# Altium footprint library Sullins.PcbLib: 28 footprints (part 2 of 2)
Each footprint in its own frame and in the unit in brackets; x right, y up, seen from the top. Pads: shape width x height; smd on the part's side, far side on the other; paste and mask are expansions set on the pad; w line width, h text height; cw(c..) or ccw(c..) is an arc to the next point about the centre after c.
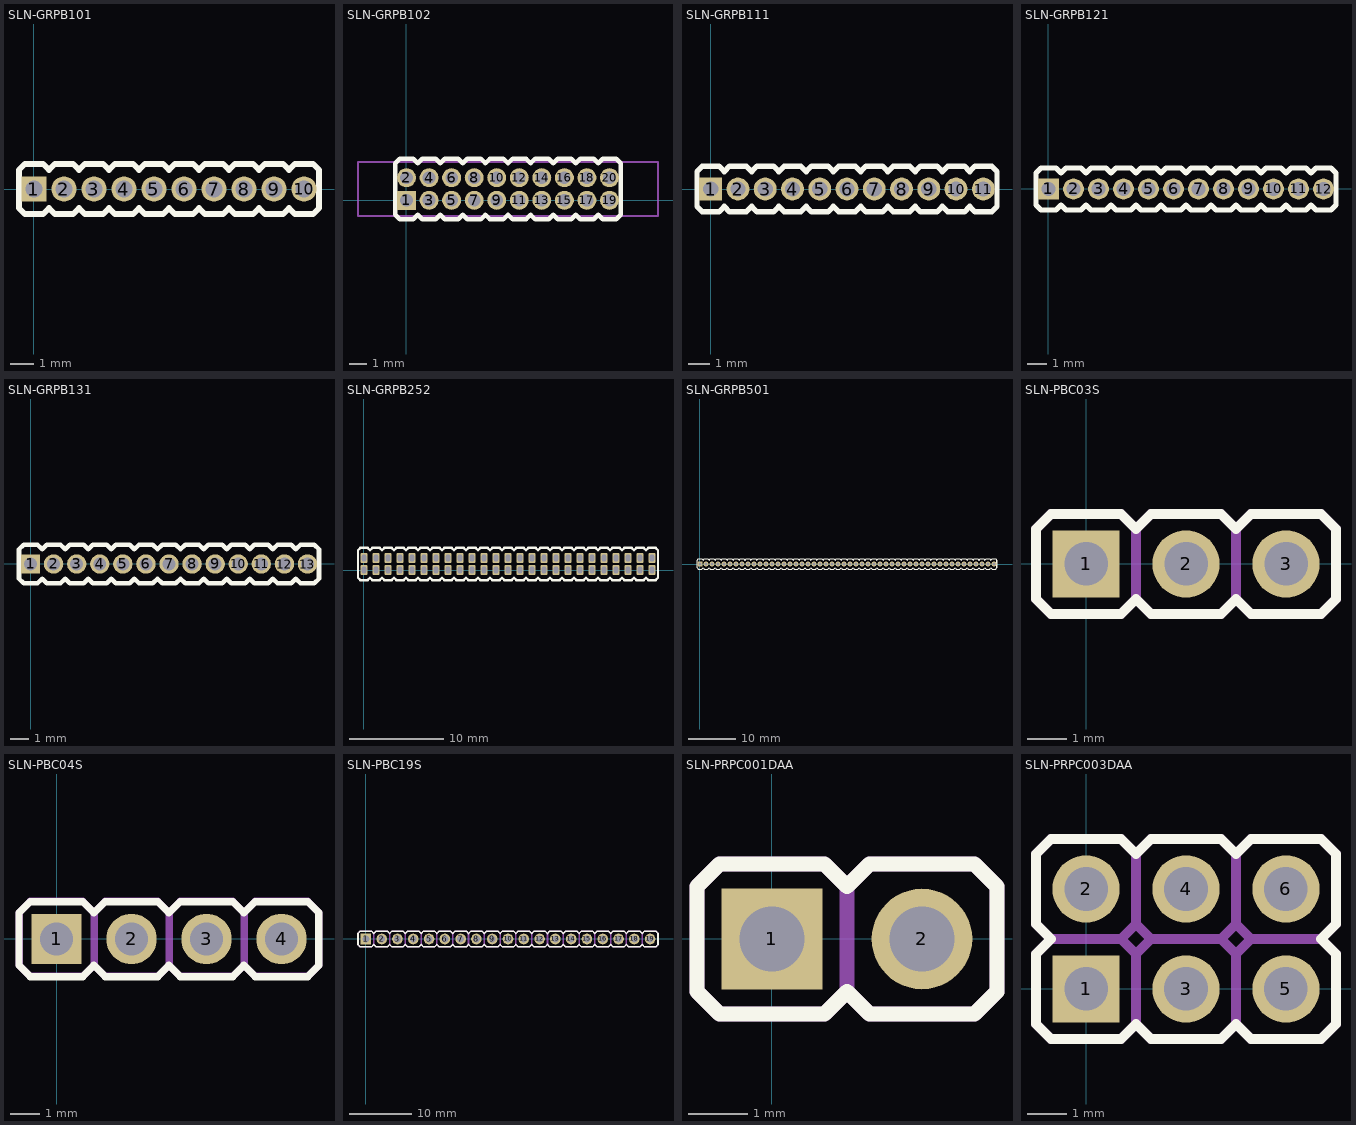
[diagram p1: the footprints below, top view; thin cyan lines are the x and y axes]

## SLN-GRPB101 [mil]
pads (10):
  rect 42x42 hole 28: 1(0,0)
  round 42 hole 28: 2(50,0) 3(100,0) 4(150,0) 5(200,0) 6(250,0) 7(300,0) 8(350,0) 9(400,0) 10(450,0)
Top Overlay:
  lines w10: -24.99,-32 -24.99,32 ; -24.99,-32 -14.99,-42 15,-42 25,-32 35.01,-42 65,-42 75,-32 85.01,-42 115,-42 125,-32 135.01,-42 165,-42 175,-32 185.01,-42 215,-42 225,-32 235.01,-42 265,-42 275,-32 285.01,-42 315,-42 325,-32 335.01,-42 365,-42 375,-32 385,-42 414.99,-42 424.99,-32 435,-42 464.99,-42 474.99,-32 ; -25,-32 -25,32 ; -24.99,32 -14.99,42 15,42 25,32 35.01,42 65,42 75,32 85.01,42 115,42 125,32 135.01,42 165,42 175,32 185.01,42 215,42 225,32 235.01,42 265,42 275,32 285.01,42 315,42 325,32 335.01,42 365,42 375,32 385,42 414.99,42 424.99,32 435,42 464.99,42 474.99,32 ; 475,-32 475,32 ; 474.99,-32 474.99,32
Mechanical 13:
  region: 458,8 442,8 442,-8 458,-8
  rectangle: 342,-8 358,8
  rectangle: 242,-8 258,8
  rectangle: 192,-8 208,8
  rectangle: -8,-8 8,8
  rectangle: 42,-8 58,8
  rectangle: 92,-8 108,8
  rectangle: 142,-8 158,8
  rectangle: 292,-8 308,8
  region: 408,8 392,8 392,-8 408,-8
3D body: height 39.37, standoff 0, extent 425,-42 474.99,42
3D body: height 129.92, standoff -118.11, extent 442,-8 458,8
3D body: height 129.92, standoff -118.11, extent 342,-8 358,8
3D body: height 39.37, standoff 0, extent 325.01,-42 375,42
3D body: height 129.92, standoff -118.11, extent 242,-8 258,8
3D body: height 39.37, standoff 0, extent 225.01,-42 275,42
3D body: height 39.37, standoff 0, extent 175.01,-42 225,42
3D body: height 129.92, standoff -118.11, extent 192,-8 208,8
3D body: height 129.92, standoff -118.11, extent -8,-8 8,8
3D body: height 39.37, standoff 0, extent -24.99,-42 25,42
3D body: height 129.92, standoff -118.11, extent 42,-8 58,8
3D body: height 39.37, standoff 0, extent 25.01,-42 75,42
3D body: height 129.92, standoff -118.11, extent 92,-8 108,8
3D body: height 39.37, standoff 0, extent 75.01,-42 125,42
3D body: height 129.92, standoff -118.11, extent 142,-8 158,8
3D body: height 39.37, standoff 0, extent 125.01,-42 175,42
3D body: height 39.37, standoff 0, extent 275.01,-42 325,42
3D body: height 129.92, standoff -118.11, extent 292,-8 308,8
3D body: height 39.37, standoff 0, extent 375,-42 424.99,42
3D body: height 129.92, standoff -118.11, extent 392,-8 408,8

## SLN-GRPB102 [mil]
pads (20):
  rect 42x42 hole 28: 1(0,0)
  round 42 hole 28: 2(0,50) 3(50,0) 4(50,50) 5(100,0) 6(100,50) 7(150,0) 8(150,50) 9(200,0) 10(200,50) 11(250,0) 12(250,50) 13(300,0) 14(300,50) 15(350,0) 16(350,50) 17(400,0) 18(400,50) 19(450,0) 20(450,50)
Top Overlay:
  lines w10: -24.99,-32 -14.99,-42 15,-42 25,-32 35.01,-42 65,-42 75,-32 85.01,-42 115,-42 125,-32 135.01,-42 165,-42 175,-32 185.01,-42 215,-42 225,-32 235.01,-42 265,-42 275,-32 285.01,-42 315,-42 325,-32 335.01,-42 365,-42 375,-32 385.01,-42 415,-42 425,-32 435.01,-42 465,-42 475,-32 475,82 465,92 435.01,92 425.01,82 415,92 385.01,92 375.01,82 365,92 335.01,92 325.01,82 315,92 285.01,92 275.01,82 265,92 235.01,92 225.01,82 215,92 185.01,92 175.01,82 165,92 135.01,92 125.01,82 115,92 85.01,92 75.01,82 65,92 35.01,92 25.01,82 15,92 -14.99,92 -24.99,82 -24.99,-32
Mechanical 13:
  rectangle: 442,-8 458,8
  rectangle: 442,42 458,58
  rectangle: 392,42 408,58
  rectangle: 242,42 258,58
  rectangle: 292,42 308,58
  rectangle: 342,42 358,58
  rectangle: 392,-8 408,8
  rectangle: 242,-8 258,8
  rectangle: 292,-8 308,8
  rectangle: 342,-8 358,8
  rectangle: 142,-8 158,8
  rectangle: 92,-8 108,8
  rectangle: 42,-8 58,8
  rectangle: -8,-8 8,8
  rectangle: 192,-8 208,8
  rectangle: 142,42 158,58
  rectangle: 92,42 108,58
  rectangle: 42,42 58,58
  rectangle: -8,42 8,58
  rectangle: 192,42 208,58
Mechanical 15:
  lines w3.94: -107.5,-35 -107.5,85 557.5,85 557.5,-35 -107.5,-35
3D body: height 129.92, standoff -118.11, extent 442,-8 458,8
3D body: height 39.37, standoff 0, extent 425.01,-42 475,42
3D body: height 129.92, standoff -118.11, extent 442,42 458,58
3D body: height 39.37, standoff 0, extent 425.01,8 475,92
3D body: height 39.37, standoff 0, extent 375.01,8 425,92
3D body: height 129.92, standoff -118.11, extent 392,42 408,58
3D body: height 129.92, standoff -118.11, extent 242,42 258,58
3D body: height 39.37, standoff 0, extent 225.01,8 275,92
3D body: height 129.92, standoff -118.11, extent 292,42 308,58
3D body: height 39.37, standoff 0, extent 275.01,8 325,92
3D body: height 129.92, standoff -118.11, extent 342,42 358,58
3D body: height 39.37, standoff 0, extent 325.01,8 375,92
3D body: height 39.37, standoff 0, extent 375.01,-42 425,42
3D body: height 129.92, standoff -118.11, extent 392,-8 408,8
3D body: height 129.92, standoff -118.11, extent 242,-8 258,8
3D body: height 39.37, standoff 0, extent 225.01,-42 275,42
3D body: height 129.92, standoff -118.11, extent 292,-8 308,8
3D body: height 39.37, standoff 0, extent 275.01,-42 325,42
3D body: height 129.92, standoff -118.11, extent 342,-8 358,8
3D body: height 39.37, standoff 0, extent 325.01,-42 375,42
3D body: height 39.37, standoff 0, extent 125.01,-42 175,42
3D body: height 129.92, standoff -118.11, extent 142,-8 158,8
3D body: height 39.37, standoff 0, extent 75.01,-42 125,42
3D body: height 129.92, standoff -118.11, extent 92,-8 108,8
3D body: height 39.37, standoff 0, extent 25.01,-42 75,42
3D body: height 129.92, standoff -118.11, extent 42,-8 58,8
3D body: height 39.37, standoff 0, extent -24.99,-42 25,42
3D body: height 129.92, standoff -118.11, extent -8,-8 8,8
3D body: height 129.92, standoff -118.11, extent 192,-8 208,8
3D body: height 39.37, standoff 0, extent 175.01,-42 225,42
3D body: height 39.37, standoff 0, extent 125.01,8 175,92
3D body: height 129.92, standoff -118.11, extent 142,42 158,58
3D body: height 39.37, standoff 0, extent 75.01,8 125,92
3D body: height 129.92, standoff -118.11, extent 92,42 108,58
3D body: height 39.37, standoff 0, extent 25.01,8 75,92
3D body: height 129.92, standoff -118.11, extent 42,42 58,58
3D body: height 39.37, standoff 0, extent -24.99,8 25,92
3D body: height 129.92, standoff -118.11, extent -8,42 8,58
3D body: height 129.92, standoff -118.11, extent 192,42 208,58
3D body: height 39.37, standoff 0, extent 175.01,8 225,92

## SLN-GRPB111 [mil]
pads (11):
  rect 42x42 hole 28: 1(0,0)
  round 42 hole 28: 2(50,0) 3(100,0) 4(150,0) 5(200,0) 6(250,0) 7(300,0) 8(350,0) 9(400,0) 10(450,0) 11(500,0)
Top Overlay:
  lines w10: -25,-32 -25,32 ; -24.99,-32 -14.99,-42 15,-42 25,-32 35.01,-42 65,-42 75,-32 85.01,-42 115,-42 125,-32 135.01,-42 165,-42 175,-32 185.01,-42 215,-42 225,-32 235.01,-42 265,-42 275,-32 285.01,-42 315,-42 325,-32 335.01,-42 365,-42 375,-32 385,-42 414.99,-42 424.99,-32 435,-42 464.99,-42 474.99,-32 485,-42 514.99,-42 524.99,-32 ; -24.99,-32 -24.99,32 ; -24.99,32 -14.99,42 15,42 25,32 35.01,42 65,42 75,32 85.01,42 115,42 125,32 135.01,42 165,42 175,32 185.01,42 215,42 225,32 235.01,42 265,42 275,32 285.01,42 315,42 325,32 335.01,42 365,42 375,32 385,42 414.99,42 424.99,32 435,42 464.99,42 474.99,32 485,42 514.99,42 524.99,32 ; 524.99,-32 524.99,32 ; 525,-32 525,32
Mechanical 13:
  region: 458,8 442,8 442,-8 458,-8
  region: 508,8 492,8 492,-8 508,-8
  region: 408,8 392,8 392,-8 408,-8
  rectangle: 292,-8 308,8
  rectangle: 142,-8 158,8
  rectangle: 92,-8 108,8
  rectangle: 42,-8 58,8
  rectangle: -8,-8 8,8
  rectangle: 192,-8 208,8
  rectangle: 242,-8 258,8
  rectangle: 342,-8 358,8
3D body: height 129.92, standoff -118.11, extent 442,-8 458,8
3D body: height 39.37, standoff 0, extent 425,-42 474.99,42
3D body: height 129.92, standoff -118.11, extent 492,-8 508,8
3D body: height 39.37, standoff 0, extent 475,-42 524.99,42
3D body: height 129.92, standoff -118.11, extent 392,-8 408,8
3D body: height 39.37, standoff 0, extent 375,-42 424.99,42
3D body: height 129.92, standoff -118.11, extent 292,-8 308,8
3D body: height 39.37, standoff 0, extent 275.01,-42 325,42
3D body: height 39.37, standoff 0, extent 125.01,-42 175,42
3D body: height 129.92, standoff -118.11, extent 142,-8 158,8
3D body: height 39.37, standoff 0, extent 75.01,-42 125,42
3D body: height 129.92, standoff -118.11, extent 92,-8 108,8
3D body: height 39.37, standoff 0, extent 25.01,-42 75,42
3D body: height 129.92, standoff -118.11, extent 42,-8 58,8
3D body: height 39.37, standoff 0, extent -24.99,-42 25,42
3D body: height 129.92, standoff -118.11, extent -8,-8 8,8
3D body: height 129.92, standoff -118.11, extent 192,-8 208,8
3D body: height 39.37, standoff 0, extent 175.01,-42 225,42
3D body: height 39.37, standoff 0, extent 225.01,-42 275,42
3D body: height 129.92, standoff -118.11, extent 242,-8 258,8
3D body: height 39.37, standoff 0, extent 325.01,-42 375,42
3D body: height 129.92, standoff -118.11, extent 342,-8 358,8

## SLN-GRPB121 [mil]
pads (12):
  rect 42x42 hole 28: 1(0,0)
  round 42 hole 28: 2(50,0) 3(100,0) 4(150,0) 5(200,0) 6(250,0) 7(300,0) 8(350,0) 9(400,0) 10(450,0) 11(500,0) 12(549.99,-0.01)
Top Overlay:
  lines w10: -24.99,-32 -24.99,32 ; -24.99,-32 -14.99,-42 15,-42 25,-32 35.01,-42 65,-42 75,-32 85.01,-42 115,-42 125,-32 135.01,-42 165,-42 175,-32 185.01,-42 215,-42 225,-32 235.01,-42 265,-42 275,-32 285.01,-42 315,-42 325,-32 335.01,-42 365,-42 375,-32 385,-42 414.99,-42 424.99,-32 435,-42 464.99,-42 474.99,-32 485,-42 514.99,-42 524.99,-32.01 534.99,-42.01 564.99,-42.01 574.99,-32.01 ; -25,-32 -25,32 ; -24.99,32 -14.99,42 15,42 25,32 35.01,42 65,42 75,32 85.01,42 115,42 125,32 135.01,42 165,42 175,32 185.01,42 215,42 225,32 235.01,42 265,42 275,32 285.01,42 315,42 325,32 335.01,42 365,42 375,32 385,42 414.99,42 424.99,32 435,42 464.99,42 474.99,32 485,42 514.99,42 524.99,31.99 534.99,41.99 564.99,41.99 574.99,31.99 ; 574.99,-32 574.99,32 ; 574.99,-32.01 574.99,31.99
Mechanical 13:
  rectangle: 342,-8 358,8
  rectangle: 242,-8 258,8
  rectangle: 192,-8 208,8
  rectangle: -8,-8 8,8
  rectangle: 42,-8 58,8
  rectangle: 92,-8 108,8
  rectangle: 142,-8 158,8
  rectangle: 292,-8 308,8
  region: 408,8 392,8 392,-8 408,-8
  region: 508,8 492,8 492,-8 508,-8
  region: 458,8 442,8 442,-8 458,-8
  region: 557.99,7.99 541.99,7.99 541.99,-8.01 557.99,-8.01
3D body: height 129.92, standoff -118.11, extent 342,-8 358,8
3D body: height 39.37, standoff 0, extent 325.01,-42 375,42
3D body: height 129.92, standoff -118.11, extent 242,-8 258,8
3D body: height 39.37, standoff 0, extent 225.01,-42 275,42
3D body: height 39.37, standoff 0, extent 175.01,-42 225,42
3D body: height 129.92, standoff -118.11, extent 192,-8 208,8
3D body: height 129.92, standoff -118.11, extent -8,-8 8,8
3D body: height 39.37, standoff 0, extent -24.99,-42 25,42
3D body: height 129.92, standoff -118.11, extent 42,-8 58,8
3D body: height 39.37, standoff 0, extent 25.01,-42 75,42
3D body: height 129.92, standoff -118.11, extent 92,-8 108,8
3D body: height 39.37, standoff 0, extent 75.01,-42 125,42
3D body: height 129.92, standoff -118.11, extent 142,-8 158,8
3D body: height 39.37, standoff 0, extent 125.01,-42 175,42
3D body: height 39.37, standoff 0, extent 275.01,-42 325,42
3D body: height 129.92, standoff -118.11, extent 292,-8 308,8
3D body: height 39.37, standoff 0, extent 375,-42 424.99,42
3D body: height 129.92, standoff -118.11, extent 392,-8 408,8
3D body: height 39.37, standoff 0, extent 475,-42 524.99,42
3D body: height 129.92, standoff -118.11, extent 492,-8 508,8
3D body: height 39.37, standoff 0, extent 425,-42 474.99,42
3D body: height 129.92, standoff -118.11, extent 442,-8 458,8
3D body: height 39.37, standoff 0, extent 524.99,-42.01 574.99,41.99
3D body: height 129.92, standoff -118.11, extent 541.99,-8.01 557.99,7.99

## SLN-GRPB131 [mil]
pads (13):
  rect 42x42 hole 28: 1(0,0)
  round 42 hole 28: 2(50,0) 3(100,0) 4(150,0) 5(200,0) 6(250,0) 7(300,0) 8(350,0) 9(400,0) 10(450,0) 11(500,0) 12(549.99,-0.01) 13(599.99,-0.01)
Top Overlay:
  lines w10: -24.99,-32 -24.99,32 ; -24.99,-32 -14.99,-42 15,-42 25,-32 35.01,-42 65,-42 75,-32 85.01,-42 115,-42 125,-32 135.01,-42 165,-42 175,-32 185.01,-42 215,-42 225,-32 235.01,-42 265,-42 275,-32 285.01,-42 315,-42 325,-32 335.01,-42 365,-42 375,-32 385,-42 414.99,-42 424.99,-32 435,-42 464.99,-42 474.99,-32 485,-42 514.99,-42 524.99,-32.01 534.99,-42.01 564.99,-42.01 574.98,-32.02 584.99,-42.02 614.98,-42.02 624.98,-32.02 ; -25,-32 -25,32 ; -24.99,32 -14.99,42 15,42 25,32 35.01,42 65,42 75,32 85.01,42 115,42 125,32 135.01,42 165,42 175,32 185.01,42 215,42 225,32 235.01,42 265,42 275,32 285.01,42 315,42 325,32 335.01,42 365,42 375,32 385,42 414.99,42 424.99,32 435,42 464.99,42 474.99,32 485,42 514.99,42 524.99,31.99 534.99,41.99 564.99,41.99 574.98,31.98 584.98,41.99 614.98,41.99 624.98,31.98 ; 624.99,-32.01 624.99,31.99 ; 624.98,-32.02 624.98,31.98
Mechanical 13:
  region: 607.98,7.98 591.98,7.98 591.98,-8.02 607.98,-8.02
  rectangle: 342,-8 358,8
  rectangle: 242,-8 258,8
  rectangle: 192,-8 208,8
  rectangle: -8,-8 8,8
  rectangle: 42,-8 58,8
  rectangle: 92,-8 108,8
  rectangle: 142,-8 158,8
  rectangle: 292,-8 308,8
  region: 408,8 392,8 392,-8 408,-8
  region: 508,8 492,8 492,-8 508,-8
  region: 458,8 442,8 442,-8 458,-8
  region: 557.99,7.99 541.99,7.99 541.99,-8.01 557.99,-8.01
3D body: height 39.37, standoff 0, extent 574.98,-42.02 624.98,41.99
3D body: height 129.92, standoff -118.11, extent 591.98,-8.02 607.98,7.98
3D body: height 129.92, standoff -118.11, extent 342,-8 358,8
3D body: height 39.37, standoff 0, extent 325.01,-42 375,42
3D body: height 129.92, standoff -118.11, extent 242,-8 258,8
3D body: height 39.37, standoff 0, extent 225.01,-42 275,42
3D body: height 39.37, standoff 0, extent 175.01,-42 225,42
3D body: height 129.92, standoff -118.11, extent 192,-8 208,8
3D body: height 129.92, standoff -118.11, extent -8,-8 8,8
3D body: height 39.37, standoff 0, extent -24.99,-42 25,42
3D body: height 129.92, standoff -118.11, extent 42,-8 58,8
3D body: height 39.37, standoff 0, extent 25.01,-42 75,42
3D body: height 129.92, standoff -118.11, extent 92,-8 108,8
3D body: height 39.37, standoff 0, extent 75.01,-42 125,42
3D body: height 129.92, standoff -118.11, extent 142,-8 158,8
3D body: height 39.37, standoff 0, extent 125.01,-42 175,42
3D body: height 39.37, standoff 0, extent 275.01,-42 325,42
3D body: height 129.92, standoff -118.11, extent 292,-8 308,8
3D body: height 39.37, standoff 0, extent 375,-42 424.99,42
3D body: height 129.92, standoff -118.11, extent 392,-8 408,8
3D body: height 39.37, standoff 0, extent 475,-42 524.99,42
3D body: height 129.92, standoff -118.11, extent 492,-8 508,8
3D body: height 39.37, standoff 0, extent 425,-42 474.99,42
3D body: height 129.92, standoff -118.11, extent 442,-8 458,8
3D body: height 39.37, standoff 0, extent 524.99,-42.01 574.99,41.99
3D body: height 129.92, standoff -118.11, extent 541.99,-8.01 557.99,7.99

## SLN-GRPB252 [mil]
pads (50):
  rrect50% 30x42 hole 18 slot 28 at 90 deg: 1(0,0) 2(0,50) 3(50,0) 4(50,50) 5(100,0) 6(100,50) 7(150,0) 8(150,50) 9(200,0) 10(200,50) 11(250,0) 12(250,50) 13(300,0) 14(300,50) 15(350,0) 16(350,50) 17(400,0) 18(400,50) 19(450,0) 20(450,50) 21(500,0) 22(500,50) 23(550,0) 24(550,50) 25(600,0) 26(600,50) 27(650,0) 28(650,50) 29(700,0) 30(700,50) 31(750,0) 32(750,50) 33(800,0) 34(800,50) 35(850,0) 36(850,50) 37(900,0) 38(900,50) 39(950,0) 40(950,50) 41(1000,0) 42(1000,50) 43(1050,0) 44(1050,50) 45(1100,0) 46(1100,50) 47(1150,0) 48(1150,50) 49(1200,0) 50(1200,50)
Top Overlay:
  drawing of 153 lines, arcs and shapes, not listed
Mechanical 13:
  rectangle: 1092,42 1108,58
  rectangle: 992,42 1008,58
  rectangle: 942,42 958,58
  rectangle: 842,42 858,58
  rectangle: 892,42 908,58
  rectangle: 1042,42 1058,58
  region: 1158,58 1142,58 1142,42 1158,42
  region: 1208,58 1192,58 1192,42 1208,42
  region: 758,58 742,58 742,42 758,42
  region: 708,58 692,58 692,42 708,42
  rectangle: 592,42 608,58
  rectangle: 442,42 458,58
  rectangle: 392,42 408,58
  rectangle: 342,42 358,58
  rectangle: 492,42 508,58
  rectangle: 542,42 558,58
  rectangle: 642,42 658,58
  region: 808,58 792,58 792,42 808,42
  region: 258,58 242,58 242,42 258,42
  region: 208,58 192,58 192,42 208,42
  rectangle: 92,42 108,58
  rectangle: 1142,-8 1158,8
  rectangle: 1092,-8 1108,8
  rectangle: 1042,-8 1058,8
  rectangle: -8,42 8,58
  rectangle: 42,42 58,58
  rectangle: 142,42 158,58
  region: 308,58 292,58 292,42 308,42
  region: 958,8 942,8 942,-8 958,-8
  region: 908,8 892,8 892,-8 908,-8
  rectangle: 792,-8 808,8
  rectangle: 642,-8 658,8
  rectangle: 592,-8 608,8
  rectangle: 542,-8 558,8
  rectangle: 692,-8 708,8
  rectangle: 742,-8 758,8
  rectangle: 842,-8 858,8
  region: 1008,8 992,8 992,-8 1008,-8
  region: 508,8 492,8 492,-8 508,-8
  rectangle: 342,-8 358,8
  rectangle: 242,-8 258,8
  rectangle: 192,-8 208,8
  rectangle: -8,-8 8,8
  rectangle: 42,-8 58,8
  rectangle: 92,-8 108,8
  rectangle: 142,-8 158,8
  rectangle: 292,-8 308,8
  region: 408,8 392,8 392,-8 408,-8
  region: 458,8 442,8 442,-8 458,-8
  rectangle: 1192,-8 1208,8
3D body: height 129.92, standoff -118.11, extent 1092,42 1108,58
3D body: height 39.37, standoff 0, extent 1075.01,8 1125,92
3D body: height 129.92, standoff -118.11, extent 992,42 1008,58
3D body: height 39.37, standoff 0, extent 975.01,8 1025,92
3D body: height 39.37, standoff 0, extent 925.01,8 975,92
3D body: height 129.92, standoff -118.11, extent 942,42 958,58
3D body: height 129.92, standoff -118.11, extent 842,42 858,58
3D body: height 39.37, standoff 0, extent 825.01,8 875,92
3D body: height 129.92, standoff -118.11, extent 892,42 908,58
3D body: height 39.37, standoff 0, extent 875.01,8 925,92
3D body: height 39.37, standoff 0, extent 1025.01,8 1075,92
3D body: height 129.92, standoff -118.11, extent 1042,42 1058,58
3D body: height 39.37, standoff 0, extent 1125,8 1174.99,92
3D body: height 129.92, standoff -118.11, extent 1142,42 1158,58
3D body: height 39.37, standoff 0, extent 1175,8 1224.99,92
3D body: height 129.92, standoff -118.11, extent 1192,42 1208,58
3D body: height 129.92, standoff -118.11, extent 742,42 758,58
3D body: height 39.37, standoff 0, extent 725,8 774.99,92
3D body: height 129.92, standoff -118.11, extent 692,42 708,58
3D body: height 39.37, standoff 0, extent 675,8 724.99,92
3D body: height 129.92, standoff -118.11, extent 592,42 608,58
3D body: height 39.37, standoff 0, extent 575.01,8 625,92
3D body: height 39.37, standoff 0, extent 425.01,8 475,92
3D body: height 129.92, standoff -118.11, extent 442,42 458,58
3D body: height 39.37, standoff 0, extent 375.01,8 425,92
3D body: height 129.92, standoff -118.11, extent 392,42 408,58
3D body: height 39.37, standoff 0, extent 325.01,8 375,92
3D body: height 129.92, standoff -118.11, extent 342,42 358,58
3D body: height 129.92, standoff -118.11, extent 492,42 508,58
3D body: height 39.37, standoff 0, extent 475.01,8 525,92
3D body: height 39.37, standoff 0, extent 525.01,8 575,92
3D body: height 129.92, standoff -118.11, extent 542,42 558,58
3D body: height 39.37, standoff 0, extent 625.01,8 675,92
3D body: height 129.92, standoff -118.11, extent 642,42 658,58
3D body: height 129.92, standoff -118.11, extent 792,42 808,58
3D body: height 39.37, standoff 0, extent 775,8 824.99,92
3D body: height 129.92, standoff -118.11, extent 242,42 258,58
3D body: height 39.37, standoff 0, extent 225,8 274.99,92
3D body: height 129.92, standoff -118.11, extent 192,42 208,58
3D body: height 39.37, standoff 0, extent 175,8 224.99,92
3D body: height 129.92, standoff -118.11, extent 92,42 108,58
3D body: height 39.37, standoff 0, extent 75.01,8 125,92
3D body: height 39.37, standoff 0, extent 1125.01,-42 1175,42
3D body: height 129.92, standoff -118.11, extent 1142,-8 1158,8
3D body: height 39.37, standoff 0, extent 1075.01,-42 1125,42
3D body: height 129.92, standoff -118.11, extent 1092,-8 1108,8
3D body: height 39.37, standoff 0, extent 1025.01,-42 1075,42
3D body: height 129.92, standoff -118.11, extent 1042,-8 1058,8
3D body: height 129.92, standoff -118.11, extent -8,42 8,58
3D body: height 39.37, standoff 0, extent -24.99,8 25,92
3D body: height 39.37, standoff 0, extent 25.01,8 75,92
3D body: height 129.92, standoff -118.11, extent 42,42 58,58
3D body: height 39.37, standoff 0, extent 125.01,8 175,92
3D body: height 129.92, standoff -118.11, extent 142,42 158,58
3D body: height 129.92, standoff -118.11, extent 292,42 308,58
3D body: height 39.37, standoff 0, extent 275,8 324.99,92
3D body: height 129.92, standoff -118.11, extent 942,-8 958,8
3D body: height 39.37, standoff 0, extent 925,-42 974.99,42
3D body: height 129.92, standoff -118.11, extent 892,-8 908,8
3D body: height 39.37, standoff 0, extent 875,-42 924.99,42
3D body: height 129.92, standoff -118.11, extent 792,-8 808,8
3D body: height 39.37, standoff 0, extent 775.01,-42 825,42
3D body: height 39.37, standoff 0, extent 625.01,-42 675,42
3D body: height 129.92, standoff -118.11, extent 642,-8 658,8
3D body: height 39.37, standoff 0, extent 575.01,-42 625,42
3D body: height 129.92, standoff -118.11, extent 592,-8 608,8
3D body: height 39.37, standoff 0, extent 525.01,-42 575,42
3D body: height 129.92, standoff -118.11, extent 542,-8 558,8
3D body: height 129.92, standoff -118.11, extent 692,-8 708,8
3D body: height 39.37, standoff 0, extent 675.01,-42 725,42
3D body: height 39.37, standoff 0, extent 725.01,-42 775,42
3D body: height 129.92, standoff -118.11, extent 742,-8 758,8
3D body: height 39.37, standoff 0, extent 825.01,-42 875,42
3D body: height 129.92, standoff -118.11, extent 842,-8 858,8
3D body: height 129.92, standoff -118.11, extent 992,-8 1008,8
3D body: height 39.37, standoff 0, extent 975,-42 1024.99,42
3D body: height 39.37, standoff 0, extent 475,-42 524.99,42
3D body: height 129.92, standoff -118.11, extent 492,-8 508,8
3D body: height 129.92, standoff -118.11, extent 342,-8 358,8
3D body: height 39.37, standoff 0, extent 325.01,-42 375,42
3D body: height 129.92, standoff -118.11, extent 242,-8 258,8
3D body: height 39.37, standoff 0, extent 225.01,-42 275,42
3D body: height 39.37, standoff 0, extent 175.01,-42 225,42
3D body: height 129.92, standoff -118.11, extent 192,-8 208,8
3D body: height 129.92, standoff -118.11, extent -8,-8 8,8
3D body: height 39.37, standoff 0, extent -24.99,-42 25,42
3D body: height 129.92, standoff -118.11, extent 42,-8 58,8
3D body: height 39.37, standoff 0, extent 25.01,-42 75,42
3D body: height 129.92, standoff -118.11, extent 92,-8 108,8
3D body: height 39.37, standoff 0, extent 75.01,-42 125,42
3D body: height 129.92, standoff -118.11, extent 142,-8 158,8
3D body: height 39.37, standoff 0, extent 125.01,-42 175,42
3D body: height 39.37, standoff 0, extent 275.01,-42 325,42
3D body: height 129.92, standoff -118.11, extent 292,-8 308,8
3D body: height 39.37, standoff 0, extent 375,-42 424.99,42
3D body: height 129.92, standoff -118.11, extent 392,-8 408,8
3D body: height 39.37, standoff 0, extent 425,-42 474.99,42
3D body: height 129.92, standoff -118.11, extent 442,-8 458,8
3D body: height 129.92, standoff -118.11, extent 1192,-8 1208,8
3D body: height 39.37, standoff 0, extent 1175.01,-42 1225,42

## SLN-GRPB501 [mil]
pads (50):
  rect 42x42 hole 28: 1(0,0)
  round 42 hole 28: 2(50,0) 3(100,0) 4(150,0) 5(200,0) 6(250,0) 7(300,0) 8(350,0) 9(400,0) 10(450,0) 11(500,0) 12(550,0) 13(600,0) 14(650,0) 15(700,0) 16(750,0) 17(800,0) 18(850,0) 19(900,0) 20(950,0) 21(1000,0) 22(1050,0) 23(1100,0) 24(1150,0) 25(1200,0) 26(1250,0) 27(1300,0) 28(1350,0) 29(1400,0) 30(1450,0) 31(1500,0) 32(1550,0) 33(1600,0) 34(1650,0) 35(1700,0) 36(1750,0) 37(1800,0) 38(1850,0) 39(1900,0) 40(1950,0) 41(2000,0) 42(2050,0) 43(2100,0) 44(2150,0) 45(2200,0) 46(2250,0) 47(2300,0) 48(2350,0) 49(2400,0) 50(2450,0)
Top Overlay:
  drawing of 304 lines, arcs and shapes, not listed
Mechanical 13:
  region: 2458,8 2442,8 2442,-8 2458,-8
  rectangle: 2292,-8 2308,8
  rectangle: 2192,-8 2208,8
  rectangle: 2142,-8 2158,8
  rectangle: 2042,-8 2058,8
  rectangle: 2092,-8 2108,8
  rectangle: 2242,-8 2258,8
  region: 2358,8 2342,8 2342,-8 2358,-8
  region: 2408,8 2392,8 2392,-8 2408,-8
  region: 1958,8 1942,8 1942,-8 1958,-8
  region: 1908,8 1892,8 1892,-8 1908,-8
  rectangle: 1792,-8 1808,8
  rectangle: 1642,-8 1658,8
  rectangle: 1592,-8 1608,8
  rectangle: 1542,-8 1558,8
  rectangle: 1692,-8 1708,8
  rectangle: 1742,-8 1758,8
  rectangle: 1842,-8 1858,8
  region: 2008,8 1992,8 1992,-8 2008,-8
  region: 1458,8 1442,8 1442,-8 1458,-8
  region: 1408,8 1392,8 1392,-8 1408,-8
  rectangle: 1292,-8 1308,8
  rectangle: 1142,-8 1158,8
  rectangle: 1092,-8 1108,8
  rectangle: 1042,-8 1058,8
  rectangle: 1192,-8 1208,8
  rectangle: 1242,-8 1258,8
  rectangle: 1342,-8 1358,8
  region: 1508,8 1492,8 1492,-8 1508,-8
  region: 958,8 942,8 942,-8 958,-8
  region: 908,8 892,8 892,-8 908,-8
  rectangle: 792,-8 808,8
  rectangle: 642,-8 658,8
  rectangle: 592,-8 608,8
  rectangle: 542,-8 558,8
  rectangle: 692,-8 708,8
  rectangle: 742,-8 758,8
  rectangle: 842,-8 858,8
  region: 1008,8 992,8 992,-8 1008,-8
  region: 508,8 492,8 492,-8 508,-8
  rectangle: 342,-8 358,8
  rectangle: 242,-8 258,8
  rectangle: 192,-8 208,8
  rectangle: -8,-8 8,8
  rectangle: 42,-8 58,8
  rectangle: 92,-8 108,8
  rectangle: 142,-8 158,8
  rectangle: 292,-8 308,8
  region: 408,8 392,8 392,-8 408,-8
  region: 458,8 442,8 442,-8 458,-8
3D body: height 129.92, standoff -118.11, extent 2442,-8 2458,8
3D body: height 39.37, standoff 0, extent 2425,-42 2474.99,42
3D body: height 129.92, standoff -118.11, extent 2292,-8 2308,8
3D body: height 39.37, standoff 0, extent 2275.01,-42 2325,42
3D body: height 129.92, standoff -118.11, extent 2192,-8 2208,8
3D body: height 39.37, standoff 0, extent 2175.01,-42 2225,42
3D body: height 39.37, standoff 0, extent 2125.01,-42 2175,42
3D body: height 129.92, standoff -118.11, extent 2142,-8 2158,8
3D body: height 129.92, standoff -118.11, extent 2042,-8 2058,8
3D body: height 39.37, standoff 0, extent 2025.01,-42 2075,42
3D body: height 129.92, standoff -118.11, extent 2092,-8 2108,8
3D body: height 39.37, standoff 0, extent 2075.01,-42 2125,42
3D body: height 39.37, standoff 0, extent 2225.01,-42 2275,42
3D body: height 129.92, standoff -118.11, extent 2242,-8 2258,8
3D body: height 39.37, standoff 0, extent 2325,-42 2374.99,42
3D body: height 129.92, standoff -118.11, extent 2342,-8 2358,8
3D body: height 39.37, standoff 0, extent 2375,-42 2424.99,42
3D body: height 129.92, standoff -118.11, extent 2392,-8 2408,8
3D body: height 129.92, standoff -118.11, extent 1942,-8 1958,8
3D body: height 39.37, standoff 0, extent 1925,-42 1974.99,42
3D body: height 129.92, standoff -118.11, extent 1892,-8 1908,8
3D body: height 39.37, standoff 0, extent 1875,-42 1924.99,42
3D body: height 129.92, standoff -118.11, extent 1792,-8 1808,8
3D body: height 39.37, standoff 0, extent 1775.01,-42 1825,42
3D body: height 39.37, standoff 0, extent 1625.01,-42 1675,42
3D body: height 129.92, standoff -118.11, extent 1642,-8 1658,8
3D body: height 39.37, standoff 0, extent 1575.01,-42 1625,42
3D body: height 129.92, standoff -118.11, extent 1592,-8 1608,8
3D body: height 39.37, standoff 0, extent 1525.01,-42 1575,42
3D body: height 129.92, standoff -118.11, extent 1542,-8 1558,8
3D body: height 129.92, standoff -118.11, extent 1692,-8 1708,8
3D body: height 39.37, standoff 0, extent 1675.01,-42 1725,42
3D body: height 39.37, standoff 0, extent 1725.01,-42 1775,42
3D body: height 129.92, standoff -118.11, extent 1742,-8 1758,8
3D body: height 39.37, standoff 0, extent 1825.01,-42 1875,42
3D body: height 129.92, standoff -118.11, extent 1842,-8 1858,8
3D body: height 129.92, standoff -118.11, extent 1992,-8 2008,8
3D body: height 39.37, standoff 0, extent 1975,-42 2024.99,42
3D body: height 129.92, standoff -118.11, extent 1442,-8 1458,8
3D body: height 39.37, standoff 0, extent 1425,-42 1474.99,42
3D body: height 129.92, standoff -118.11, extent 1392,-8 1408,8
3D body: height 39.37, standoff 0, extent 1375,-42 1424.99,42
3D body: height 129.92, standoff -118.11, extent 1292,-8 1308,8
3D body: height 39.37, standoff 0, extent 1275.01,-42 1325,42
3D body: height 39.37, standoff 0, extent 1125.01,-42 1175,42
3D body: height 129.92, standoff -118.11, extent 1142,-8 1158,8
3D body: height 39.37, standoff 0, extent 1075.01,-42 1125,42
3D body: height 129.92, standoff -118.11, extent 1092,-8 1108,8
3D body: height 39.37, standoff 0, extent 1025.01,-42 1075,42
3D body: height 129.92, standoff -118.11, extent 1042,-8 1058,8
3D body: height 129.92, standoff -118.11, extent 1192,-8 1208,8
3D body: height 39.37, standoff 0, extent 1175.01,-42 1225,42
3D body: height 39.37, standoff 0, extent 1225.01,-42 1275,42
3D body: height 129.92, standoff -118.11, extent 1242,-8 1258,8
3D body: height 39.37, standoff 0, extent 1325.01,-42 1375,42
3D body: height 129.92, standoff -118.11, extent 1342,-8 1358,8
3D body: height 129.92, standoff -118.11, extent 1492,-8 1508,8
3D body: height 39.37, standoff 0, extent 1475,-42 1524.99,42
3D body: height 129.92, standoff -118.11, extent 942,-8 958,8
3D body: height 39.37, standoff 0, extent 925,-42 974.99,42
3D body: height 129.92, standoff -118.11, extent 892,-8 908,8
3D body: height 39.37, standoff 0, extent 875,-42 924.99,42
3D body: height 129.92, standoff -118.11, extent 792,-8 808,8
3D body: height 39.37, standoff 0, extent 775.01,-42 825,42
3D body: height 39.37, standoff 0, extent 625.01,-42 675,42
3D body: height 129.92, standoff -118.11, extent 642,-8 658,8
3D body: height 39.37, standoff 0, extent 575.01,-42 625,42
3D body: height 129.92, standoff -118.11, extent 592,-8 608,8
3D body: height 39.37, standoff 0, extent 525.01,-42 575,42
3D body: height 129.92, standoff -118.11, extent 542,-8 558,8
3D body: height 129.92, standoff -118.11, extent 692,-8 708,8
3D body: height 39.37, standoff 0, extent 675.01,-42 725,42
3D body: height 39.37, standoff 0, extent 725.01,-42 775,42
3D body: height 129.92, standoff -118.11, extent 742,-8 758,8
3D body: height 39.37, standoff 0, extent 825.01,-42 875,42
3D body: height 129.92, standoff -118.11, extent 842,-8 858,8
3D body: height 129.92, standoff -118.11, extent 992,-8 1008,8
3D body: height 39.37, standoff 0, extent 975,-42 1024.99,42
3D body: height 39.37, standoff 0, extent 475,-42 524.99,42
3D body: height 129.92, standoff -118.11, extent 492,-8 508,8
3D body: height 129.92, standoff -118.11, extent 342,-8 358,8
3D body: height 39.37, standoff 0, extent 325.01,-42 375,42
3D body: height 129.92, standoff -118.11, extent 242,-8 258,8
3D body: height 39.37, standoff 0, extent 225.01,-42 275,42
3D body: height 39.37, standoff 0, extent 175.01,-42 225,42
3D body: height 129.92, standoff -118.11, extent 192,-8 208,8
3D body: height 129.92, standoff -118.11, extent -8,-8 8,8
3D body: height 39.37, standoff 0, extent -24.99,-42 25,42
3D body: height 129.92, standoff -118.11, extent 42,-8 58,8
3D body: height 39.37, standoff 0, extent 25.01,-42 75,42
3D body: height 129.92, standoff -118.11, extent 92,-8 108,8
3D body: height 39.37, standoff 0, extent 75.01,-42 125,42
3D body: height 129.92, standoff -118.11, extent 142,-8 158,8
3D body: height 39.37, standoff 0, extent 125.01,-42 175,42
3D body: height 39.37, standoff 0, extent 275.01,-42 325,42
3D body: height 129.92, standoff -118.11, extent 292,-8 308,8
3D body: height 39.37, standoff 0, extent 375,-42 424.99,42
3D body: height 129.92, standoff -118.11, extent 392,-8 408,8
3D body: height 39.37, standoff 0, extent 425,-42 474.99,42
3D body: height 129.92, standoff -118.11, extent 442,-8 458,8

## SLN-PBC03S [mm] "CONN HEADER .100 SINGL STR 3POS"
height 8.382
pads (3):
  rect 1.705x1.705 hole 1.105: 1(0,0)
  round 1.705 hole 1.105: 2(2.54,0) 3(5.08,0)
Top Overlay:
  lines w0.254: -1.27,-0.889 -1.27,0 -1.27,0.889 -0.889,1.27 0.889,1.27 1.27,0.889 1.651,1.27 3.429,1.27 3.81,0.889 4.191,1.27 5.969,1.27 6.35,0.889 6.35,-0.889 5.969,-1.27 4.318,-1.27 4.191,-1.27 3.81,-0.889 3.429,-1.27 1.778,-1.27 1.651,-1.27 1.27,-0.889 0.889,-1.27 -0.762,-1.27 -0.889,-1.27 -1.27,-0.889
Mechanical 13:
  rectangle: 4.763,-0.318 5.397,0.318
  rectangle: 2.222,-0.318 2.857,0.318
  rectangle: -0.318,-0.318 0.318,0.318
  lines w0.254: 1.27,-0.889 1.27,0 1.27,0.889 ; 1.27,-0.889 1.651,-1.27 1.778,-1.27 3.429,-1.27 3.81,-0.889 ; 1.27,-0.889 1.27,0.889 ; 1.27,-0.889 0.889,-1.27 -0.762,-1.27 -0.889,-1.27 -1.27,-0.889 -1.27,0 -1.27,0.889 -0.889,1.27 0.889,1.27 1.27,0.889 ; 1.27,0.889 1.651,1.27 3.429,1.27 3.81,0.889 ; 3.81,-0.889 4.191,-1.27 4.318,-1.27 5.969,-1.27 6.35,-0.889 6.35,0.889 5.969,1.27 4.191,1.27 3.81,0.889 ; 3.81,-0.889 3.81,0 3.81,0.889 ; 3.81,-0.889 3.81,0.889
3D body: height 2.54, standoff 0, extent 3.81,-1.27 6.35,1.27
3D body: height 11.43, standoff -3.05, extent 4.763,-0.318 5.397,0.318
3D body: height 11.43, standoff -3.05, extent 2.222,-0.318 2.857,0.318
3D body: height 2.54, standoff 0, extent 1.27,-1.27 3.81,1.27
3D body: height 2.54, standoff 0, extent -1.27,-1.27 1.27,1.27
3D body: height 11.43, standoff -3.05, extent -0.318,-0.318 0.318,0.318

## SLN-PBC04S [mm] "CONN HEADER .100 SINGL STR 4POS"
height 8.382
pads (4):
  rect 1.705x1.705 hole 1.105: 1(0,0)
  round 1.705 hole 1.105: 2(2.54,0) 3(5.08,0) 4(7.62,0)
Top Overlay:
  lines w0.254: -1.27,-0.889 -1.27,0 -1.27,0.889 -0.889,1.27 0.889,1.27 1.27,0.889 1.651,1.27 3.429,1.27 3.81,0.889 4.191,1.27 5.969,1.27 6.35,0.889 6.731,1.27 8.509,1.27 8.89,0.889 8.89,-0.889 8.509,-1.27 6.858,-1.27 6.731,-1.27 6.35,-0.889 5.969,-1.27 4.318,-1.27 4.191,-1.27 3.81,-0.889 3.429,-1.27 1.778,-1.27 1.651,-1.27 1.27,-0.889 0.889,-1.27 -0.762,-1.27 -0.889,-1.27 -1.27,-0.889
Mechanical 13:
  rectangle: 7.302,-0.318 7.938,0.318
  rectangle: 4.763,-0.318 5.397,0.318
  rectangle: 2.222,-0.318 2.857,0.318
  rectangle: -0.318,-0.318 0.318,0.318
  lines w0.254: 1.27,-0.889 1.27,0 1.27,0.889 ; 1.27,-0.889 1.651,-1.27 1.778,-1.27 3.429,-1.27 3.81,-0.889 ; 1.27,-0.889 1.27,0.889 ; 1.27,-0.889 0.889,-1.27 -0.762,-1.27 -0.889,-1.27 -1.27,-0.889 -1.27,0 -1.27,0.889 -0.889,1.27 0.889,1.27 1.27,0.889 ; 1.27,0.889 1.651,1.27 3.429,1.27 3.81,0.889 ; 3.81,-0.889 4.191,-1.27 4.318,-1.27 5.969,-1.27 6.35,-0.889 ; 3.81,-0.889 3.81,0 3.81,0.889 ; 3.81,-0.889 3.81,0.889 ; 3.81,0.889 4.191,1.27 5.969,1.27 6.35,0.889 ; 6.35,-0.889 6.731,-1.27 6.858,-1.27 8.509,-1.27 8.89,-0.889 8.89,0.889 8.509,1.27 6.731,1.27 6.35,0.889 ; 6.35,-0.889 6.35,0 6.35,0.889 ; 6.35,-0.889 6.35,0.889
3D body: height 2.54, standoff 0, extent 6.35,-1.27 8.89,1.27
3D body: height 11.43, standoff -3.05, extent 7.302,-0.318 7.938,0.318
3D body: height 2.54, standoff 0, extent 3.81,-1.27 6.35,1.27
3D body: height 11.43, standoff -3.05, extent 4.763,-0.318 5.397,0.318
3D body: height 11.43, standoff -3.05, extent 2.222,-0.318 2.857,0.318
3D body: height 2.54, standoff 0, extent 1.27,-1.27 3.81,1.27
3D body: height 2.54, standoff 0, extent -1.27,-1.27 1.27,1.27
3D body: height 11.43, standoff -3.05, extent -0.318,-0.318 0.318,0.318

## SLN-PBC19S [mm] "CONN HEADER .100 SINGL STR 19POS"
height 8.382
pads (19):
  rect 1.705x1.705 hole 1.105: 1(0,0)
  round 1.705 hole 1.105: 2(2.54,0) 3(5.08,0) 4(7.62,0) 5(10.16,0) 6(12.7,0) 7(15.24,0) 8(17.78,0) 9(20.32,0) 10(22.86,0) 11(25.4,0) 12(27.94,0) 13(30.48,0) 14(33.02,0) 15(35.56,0) 16(38.1,0) 17(40.64,0) 18(43.18,0) 19(45.72,0)
Top Overlay:
  lines w0.254: -1.27,-0.889 -0.889,-1.27 -0.762,-1.27 0.889,-1.27 1.27,-0.889 1.651,-1.27 1.778,-1.27 3.429,-1.27 3.81,-0.889 4.191,-1.27 4.318,-1.27 5.969,-1.27 6.35,-0.889 6.731,-1.27 6.858,-1.27 8.509,-1.27 8.89,-0.889 9.271,-1.27 9.398,-1.27 11.049,-1.27 11.43,-0.889 11.811,-1.27 11.938,-1.27 13.589,-1.27 13.97,-0.889 14.351,-1.27 14.478,-1.27 16.129,-1.27 16.51,-0.889 16.891,-1.27 17.018,-1.27 18.669,-1.27 19.05,-0.889 19.431,-1.27 19.558,-1.27 21.209,-1.27 21.59,-0.889 21.971,-1.27 22.098,-1.27 23.749,-1.27 24.13,-0.889 24.511,-1.27 24.638,-1.27 26.289,-1.27 26.67,-0.889 27.051,-1.27 27.178,-1.27 28.829,-1.27 29.21,-0.889 29.591,-1.27 29.718,-1.27 31.369,-1.27 31.75,-0.889 32.131,-1.27 32.258,-1.27 33.909,-1.27 34.29,-0.889 34.671,-1.27 34.798,-1.27 36.449,-1.27 36.83,-0.889 37.211,-1.27 37.338,-1.27 38.989,-1.27 39.37,-0.889 39.751,-1.27 39.878,-1.27 41.529,-1.27 41.91,-0.889 42.291,-1.27 42.418,-1.27 44.069,-1.27 44.45,-0.889 44.831,-1.27 44.958,-1.27 46.609,-1.27 46.99,-0.889 46.99,0.889 46.609,1.27 44.831,1.27 44.45,0.889 44.069,1.27 42.291,1.27 41.91,0.889 41.529,1.27 39.751,1.27 39.37,0.889 38.989,1.27 37.211,1.27 36.83,0.889 36.449,1.27 34.671,1.27 34.29,0.889 33.909,1.27 32.131,1.27 31.75,0.889 31.369,1.27 29.591,1.27 29.21,0.889 28.829,1.27 27.051,1.27 26.67,0.889 26.289,1.27 24.511,1.27 24.13,0.889 23.749,1.27 21.971,1.27 21.59,0.889 21.209,1.27 19.431,1.27 19.05,0.889 18.669,1.27 16.891,1.27 16.51,0.889 16.129,1.27 14.351,1.27 13.97,0.889 13.589,1.27 11.811,1.27 11.43,0.889 11.049,1.27 9.271,1.27 8.89,0.889 8.509,1.27 6.731,1.27 6.35,0.889 5.969,1.27 4.191,1.27 3.81,0.889 3.429,1.27 1.651,1.27 1.27,0.889 0.889,1.27 -0.889,1.27 -1.27,0.889 -1.27,-0.889
Mechanical 13:
  drawing of 206 lines, arcs and shapes, not listed
3D body: height 2.54, standoff 0, extent 44.45,-1.27 46.99,1.27
3D body: height 2.54, standoff 0, extent 6.35,-1.27 8.89,1.27
3D body: height 11.43, standoff -3.05, extent 7.302,-0.318 7.938,0.318
3D body: height 2.54, standoff 0, extent 3.81,-1.27 6.35,1.27
3D body: height 11.43, standoff -3.05, extent 4.763,-0.318 5.397,0.318
3D body: height 11.43, standoff -3.05, extent 2.222,-0.318 2.857,0.318
3D body: height 2.54, standoff 0, extent 1.27,-1.27 3.81,1.27
3D body: height 2.54, standoff 0, extent -1.27,-1.27 1.27,1.27
3D body: height 11.43, standoff -3.05, extent -0.318,-0.318 0.318,0.318
3D body: height 2.54, standoff 0, extent 8.89,-1.27 11.43,1.27
3D body: height 11.43, standoff -3.05, extent 9.842,-0.318 10.477,0.318
3D body: height 11.43, standoff -3.05, extent 12.383,-0.318 13.018,0.318
3D body: height 2.54, standoff 0, extent 11.43,-1.27 13.97,1.27
3D body: height 11.43, standoff -3.05, extent 14.922,-0.318 15.557,0.318
3D body: height 2.54, standoff 0, extent 13.97,-1.27 16.51,1.27
3D body: height 2.54, standoff 0, extent 16.51,-1.27 19.05,1.27
3D body: height 11.43, standoff -3.05, extent 17.462,-0.318 18.098,0.318
3D body: height 11.43, standoff -3.05, extent 20.002,-0.318 20.637,0.318
3D body: height 2.54, standoff 0, extent 19.05,-1.27 21.59,1.27
3D body: height 11.43, standoff -3.05, extent 22.543,-0.318 23.177,0.318
3D body: height 2.54, standoff 0, extent 21.59,-1.27 24.13,1.27
3D body: height 2.54, standoff 0, extent 24.13,-1.27 26.67,1.27
3D body: height 11.43, standoff -3.05, extent 25.082,-0.318 25.717,0.318
3D body: height 11.43, standoff -3.05, extent 27.622,-0.318 28.258,0.318
3D body: height 2.54, standoff 0, extent 26.67,-1.27 29.21,1.27
3D body: height 11.43, standoff -3.05, extent 30.162,-0.318 30.797,0.318
3D body: height 2.54, standoff 0, extent 29.21,-1.27 31.75,1.27
3D body: height 2.54, standoff 0, extent 31.75,-1.27 34.29,1.27
3D body: height 11.43, standoff -3.05, extent 32.703,-0.318 33.337,0.318
3D body: height 11.43, standoff -3.05, extent 35.242,-0.318 35.877,0.318
3D body: height 2.54, standoff 0, extent 34.29,-1.27 36.83,1.27
3D body: height 11.43, standoff -3.05, extent 37.782,-0.318 38.417,0.318
3D body: height 2.54, standoff 0, extent 36.83,-1.27 39.37,1.27
3D body: height 2.54, standoff 0, extent 39.37,-1.27 41.91,1.27
3D body: height 11.43, standoff -3.05, extent 40.322,-0.318 40.957,0.318
3D body: height 11.43, standoff -3.05, extent 42.862,-0.318 43.497,0.318
3D body: height 2.54, standoff 0, extent 41.91,-1.27 44.45,1.27
3D body: height 11.43, standoff -3.05, extent 45.402,-0.318 46.038,0.318

## SLN-PRPC001DAA [mm]
pads (2):
  rect 1.705x1.705 hole 1.105: 1(0,-0.003)
  round 1.705 hole 1.105: 2(2.54,-0.003)
Top Overlay:
  lines w0.254: 3.81,-0.892 3.429,-1.273 1.778,-1.273 1.651,-1.273 1.27,-0.892 0.889,-1.273 -0.762,-1.273 -0.889,-1.273 -1.27,-0.892 -1.27,-0.003 -1.27,0.886 -0.889,1.267 0.889,1.267 1.27,0.886 1.651,1.267 3.429,1.267 3.81,0.886 ; 3.811,-0.904 3.811,-0.015 3.811,0.874
Mechanical 13:
  rectangle: 2.223,-0.32 2.858,0.315
  rectangle: -0.317,-0.32 0.318,0.315
  lines w0.254: 1.27,-0.892 1.27,-0.003 1.27,0.886 ; 1.27,-0.892 1.651,-1.273 1.778,-1.273 3.429,-1.273 3.81,-0.892 ; 1.27,-0.892 1.27,0.886 ; 1.27,-0.892 0.889,-1.273 -0.762,-1.273 -0.889,-1.273 -1.27,-0.892 -1.27,-0.003 -1.27,0.886 -0.889,1.267 0.889,1.267 1.27,0.886 ; 1.27,0.886 1.651,1.267 3.429,1.267 3.81,0.886 ; 3.81,-0.892 3.81,-0.003 3.81,0.886 ; 3.81,-0.892 3.81,0.886
3D body: height 11.43, standoff -3.05, extent 2.223,-0.32 2.858,0.315
3D body: height 2.54, standoff 0, extent 1.27,-1.273 3.81,1.267
3D body: height 2.54, standoff 0, extent -1.27,-1.273 1.27,1.267
3D body: height 11.43, standoff -3.05, extent -0.317,-0.32 0.318,0.315

## SLN-PRPC003DAA [mm] "CONN HEADER .100\"\" DUAL STR 6POS"
height 8.331
pads (6):
  rect 1.705x1.705 hole 1.105: 1(0,0)
  round 1.705 hole 1.105: 2(0,2.54) 3(2.54,0) 4(2.54,2.54) 5(5.08,0) 6(5.08,2.54)
Top Overlay:
  lines w0.254: -1.27,-0.889 -1.27,0 -1.27,0.889 -0.889,1.27 -1.27,1.651 -1.27,3.429 -0.889,3.81 0.889,3.81 1.27,3.429 1.651,3.81 1.778,3.81 3.429,3.81 3.81,3.429 4.191,3.81 4.318,3.81 5.969,3.81 6.35,3.429 6.35,1.778 6.35,1.651 5.969,1.27 6.35,0.889 6.35,-0.889 5.969,-1.27 4.318,-1.27 4.191,-1.27 3.81,-0.889 3.429,-1.27 1.778,-1.27 1.651,-1.27 1.27,-0.889 0.889,-1.27 -0.762,-1.27 -0.889,-1.27 -1.27,-0.889
Mechanical 13:
  rectangle: -0.318,-0.318 0.318,0.318
  region: 2.857,2.222 2.857,2.857 2.222,2.857 2.222,2.222
  region: -0.317,2.857 -0.318,2.222 0.317,2.222 0.318,2.857
  rectangle: 2.222,-0.318 2.857,0.318
  region: 5.397,2.222 5.397,2.857 4.762,2.857 4.762,2.222
  rectangle: 4.762,-0.318 5.397,0.318
  lines w0.254: -0.889,1.27 -1.27,0.889 -1.27,-0.889 -0.889,-1.27 0.889,-1.27 1.27,-0.889 ; -0.889,1.27 -1.27,1.651 -1.27,3.429 -0.889,3.81 0.889,3.81 1.27,3.429 ; -0.889,1.27 0.889,1.27 ; 0.889,1.27 1.27,0.889 ; 0.889,1.27 1.27,1.651 ; 1.27,-0.889 1.651,-1.27 3.429,-1.27 3.81,-0.889 ; 1.27,-0.889 1.27,0.889 ; 1.27,0.889 1.651,1.27 ; 1.27,1.651 1.27,3.429 ; 1.27,1.651 1.651,1.27 ; 1.27,3.429 1.651,3.81 3.429,3.81 3.81,3.429 ; 1.651,1.27 3.429,1.27 ; 3.429,1.27 3.81,0.889 ; 3.429,1.27 3.81,1.651 ; 3.81,-0.889 4.191,-1.27 5.969,-1.27 6.35,-0.889 6.35,0.889 5.969,1.27 ; 3.81,-0.889 3.81,0.889 ; 3.81,0.889 4.191,1.27 ; 3.81,1.651 3.81,3.429 ; 3.81,1.651 4.191,1.27 ; 3.81,3.429 4.191,3.81 5.969,3.81 6.35,3.429 6.35,1.651 5.969,1.27 ; 4.191,1.27 5.969,1.27
3D body: height 2.54, standoff 0, extent 3.81,-1.27 6.35,1.27
3D body: height 2.54, standoff 0, extent 1.27,-1.27 3.81,1.27
3D body: height 2.54, standoff 0, extent -1.27,-1.27 1.27,1.27
3D body: height 8.33, standoff -3.05, extent -0.318,-0.318 0.318,0.318
3D body: height 2.54, standoff 0, extent -1.27,1.27 1.27,3.81
3D body: height 2.54, standoff 0, extent 1.27,1.27 3.81,3.81
3D body: height 2.54, standoff 0, extent 3.81,1.27 6.35,3.81
3D body: height 8.33, standoff -3.05, extent 2.222,2.222 2.857,2.857
3D body: height 8.33, standoff -3.05, extent -0.318,2.222 0.318,2.857
3D body: height 8.33, standoff -3.05, extent 2.222,-0.318 2.857,0.318
3D body: height 8.33, standoff -3.05, extent 4.762,2.222 5.397,2.857
3D body: height 8.33, standoff -3.05, extent 4.762,-0.318 5.397,0.318